# Altium schematic symbol library 原理图库.SchLib: 25 symbols
Pins are listed as number, name and electrical type; pins without a type are passive.

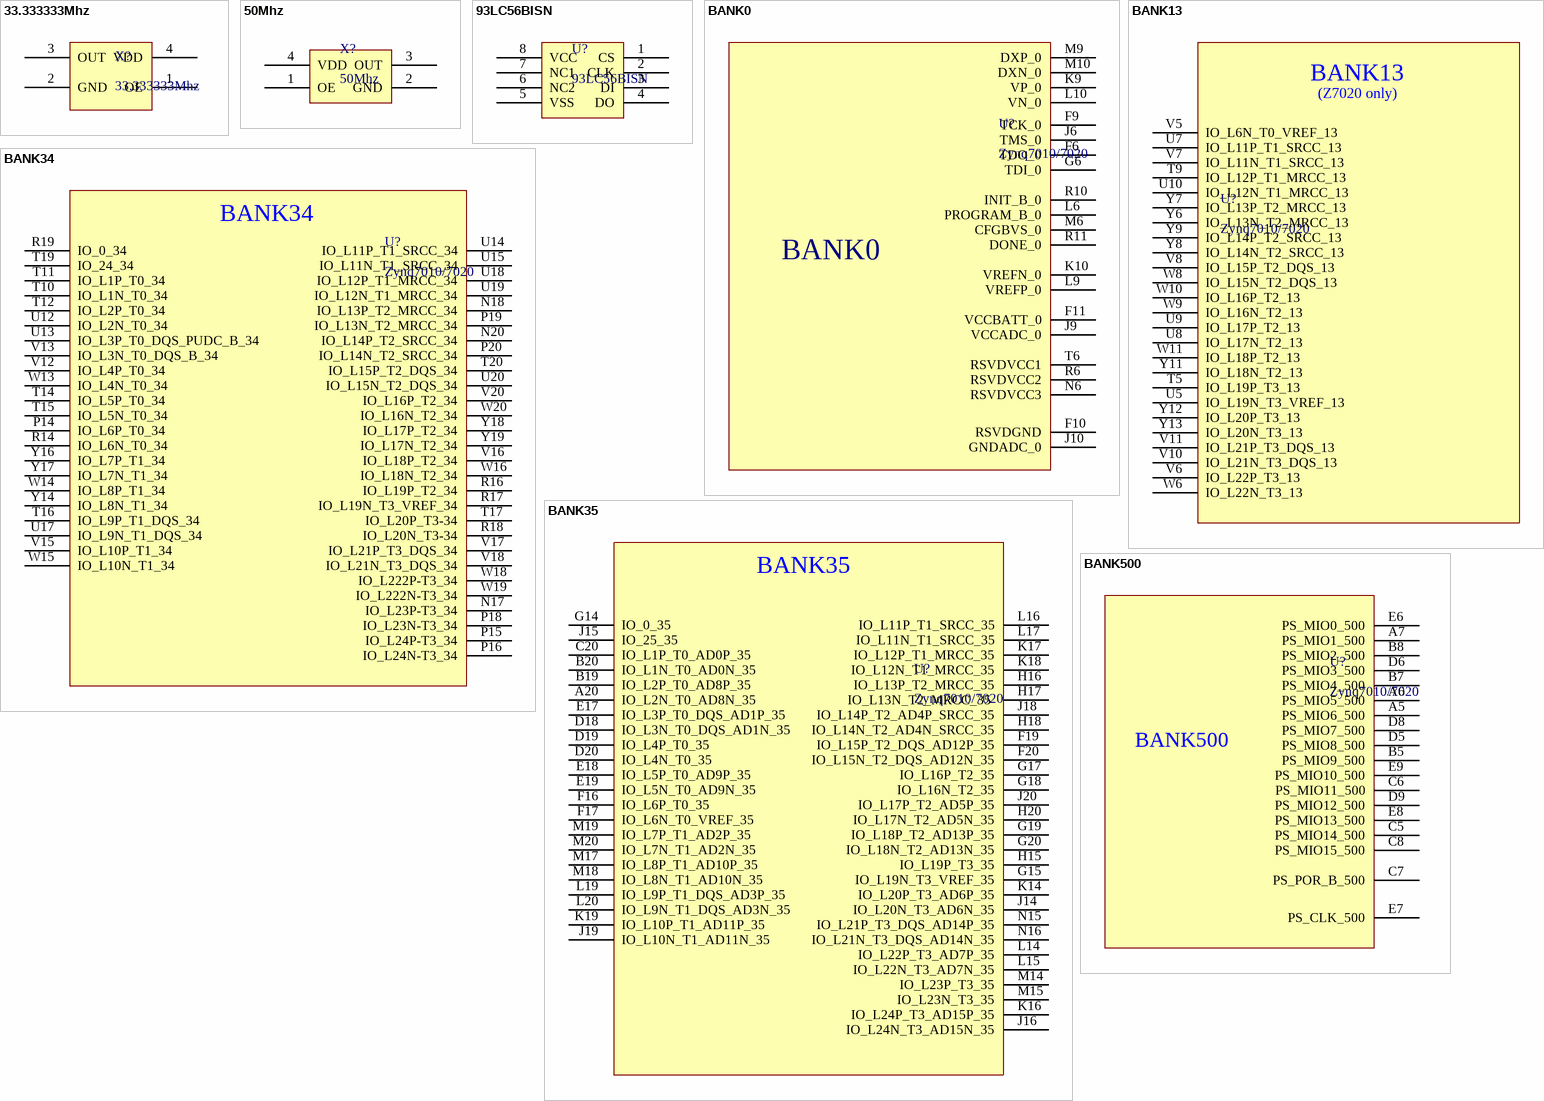
[diagram p0: symbols 33.333333Mhz to BANK500]

## 33.333333Mhz
designator X?
pins: 1 OE, 2 GND, 3 OUT, 4 VDD

## 50Mhz
designator X?
pins: 1 OE (hiz), 2 GND (hiz), 3 OUT (hiz), 4 VDD (hiz)

## 93LC56BISN
designator U?
pins: 1 CS, 2 CLK, 3 DI, 4 DO, 5 VSS, 6 NC2, 7 NC1, 8 VCC

## BANK0
designator U?, comment Zynq7010/7020
pins: F6 TDO_0, F9 TCK_0, F10 RSVDGND, F11 VCCBATT_0, G6 TDI_0, J6 TMS_0, J9 VCCADC_0, J10 GNDADC_0, K9 VP_0, K10 VREFN_0, L6 PROGRAM_B_0, L9 VREFP_0, L10 VN_0, M6 CFGBVS_0, M9 DXP_0, M10 DXN_0, N6 RSVDVCC3, R6 RSVDVCC2, R10 INIT_B_0, R11 DONE_0, T6 RSVDVCC1

## BANK13
designator U?, comment Zynq7010/7020
pins: T5 IO_L19P_T3_13 (hiz), T9 IO_L12P_T1_MRCC_13 (hiz), U5 IO_L19N_T3_VREF_13 (hiz), U7 IO_L11P_T1_SRCC_13 (hiz), U8 IO_L17N_T2_13 (hiz), U9 IO_L17P_T2_13 (hiz), U10 IO_L12N_T1_MRCC_13 (hiz), V5 IO_L6N_T0_VREF_13 (hiz), V6 IO_L22P_T3_13 (hiz), V7 IO_L11N_T1_SRCC_13 (hiz), V8 IO_L15P_T2_DQS_13 (hiz), V10 IO_L21N_T3_DQS_13 (hiz), V11 IO_L21P_T3_DQS_13 (hiz), W6 IO_L22N_T3_13 (hiz), W8 IO_L15N_T2_DQS_13 (hiz), W9 IO_L16N_T2_13 (hiz), W10 IO_L16P_T2_13 (hiz), W11 IO_L18P_T2_13 (hiz), Y6 IO_L13N_T2_MRCC_13 (hiz), Y7 IO_L13P_T2_MRCC_13 (hiz), Y8 IO_L14N_T2_SRCC_13 (hiz), Y9 IO_L14P_T2_SRCC_13 (hiz), Y11 IO_L18N_T2_13 (hiz), Y12 IO_L20P_T3_13 (hiz), Y13 IO_L20N_T3_13 (hiz)
text: (Z7020 only)

## BANK34
designator U?, comment Zynq7010/7020
pins: N17 IO_L23P-T3_34, N18 IO_L13P_T2_MRCC_34, N20 IO_L14P_T2_SRCC_34, P14 IO_L6P_T0_34 (hiz), P15 IO_L24P-T3_34, P16 IO_L24N-T3_34, P18 IO_L23N-T3_34, P19 IO_L13N_T2_MRCC_34, P20 IO_L14N_T2_SRCC_34, R14 IO_L6N_T0_34 (hiz), R16 IO_L19P_T2_34, R17 IO_L19N_T3_VREF_34, R18 IO_L20N_T3-34, R19 IO_0_34, T10 IO_L1N_T0_34, T11 IO_L1P_T0_34, T12 IO_L2P_T0_34, T14 IO_L5P_T0_34 (hiz), T15 IO_L5N_T0_34 (hiz), T16 IO_L9P_T1_DQS_34 (hiz), T17 IO_L20P_T3-34, T19 IO_24_34, T20 IO_L15P_T2_DQS_34, U12 IO_L2N_T0_34, U13 IO_L3P_T0_DQS_PUDC_B_34, U14 IO_L11P_T1_SRCC_34, U15 IO_L11N_T1_SRCC_34, U17 IO_L9N_T1_DQS_34 (hiz), U18 IO_L12P_T1_MRCC_34, U19 IO_L12N_T1_MRCC_34, U20 IO_L15N_T2_DQS_34, V12 IO_L4P_T0_34, V13 IO_L3N_T0_DQS_B_34, V15 IO_L10P_T1_34 (hiz), V16 IO_L18P_T2_34, V17 IO_L21P_T3_DQS_34, V18 IO_L21N_T3_DQS_34, V20 IO_L16P_T2_34, W13 IO_L4N_T0_34, W14 IO_L8P_T1_34 (hiz), W15 IO_L10N_T1_34 (hiz), W16 IO_L18N_T2_34, W18 IO_L222P-T3_34, W19 IO_L222N-T3_34, W20 IO_L16N_T2_34, Y14 IO_L8N_T1_34 (hiz), Y16 IO_L7P_T1_34 (hiz), Y17 IO_L7N_T1_34 (hiz), Y18 IO_L17P_T2_34, Y19 IO_L17N_T2_34

## BANK35
designator U?, comment Zynq7010/7020
pins: A20 IO_L2N_T0_AD8N_35 (hiz), B19 IO_L2P_T0_AD8P_35 (hiz), B20 IO_L1N_T0_AD0N_35 (hiz), C20 IO_L1P_T0_AD0P_35 (hiz), D18 IO_L3N_T0_DQS_AD1N_35 (hiz), D19 IO_L4P_T0_35 (hiz), D20 IO_L4N_T0_35 (hiz), E17 IO_L3P_T0_DQS_AD1P_35 (hiz), E18 IO_L5P_T0_AD9P_35 (hiz), E19 IO_L5N_T0_AD9N_35 (hiz), F16 IO_L6P_T0_35 (hiz), F17 IO_L6N_T0_VREF_35 (hiz), F19 IO_L15P_T2_DQS_AD12P_35 (hiz), F20 IO_L15N_T2_DQS_AD12N_35 (hiz), G14 IO_0_35 (hiz), G15 IO_L19N_T3_VREF_35 (hiz), G17 IO_L16P_T2_35 (hiz), G18 IO_L16N_T2_35 (hiz), G19 IO_L18P_T2_AD13P_35 (hiz), G20 IO_L18N_T2_AD13N_35 (hiz), H15 IO_L19P_T3_35 (hiz), H16 IO_L13P_T2_MRCC_35 (hiz), H17 IO_L13N_T2_MRCC_35  (hiz), H18 IO_L14N_T2_AD4N_SRCC_35 (hiz), H20 IO_L17N_T2_AD5N_35 (hiz), J14 IO_L20N_T3_AD6N_35 (hiz), J15 IO_25_35 (hiz), J16 IO_L24N_T3_AD15N_35 (hiz), J18 IO_L14P_T2_AD4P_SRCC_35 (hiz), J19 IO_L10N_T1_AD11N_35 (hiz), J20 IO_L17P_T2_AD5P_35 (hiz), K14 IO_L20P_T3_AD6P_35 (hiz), K16 IO_L24P_T3_AD15P_35 (hiz), K17 IO_L12P_T1_MRCC_35 (hiz), K18 IO_L12N_T1_MRCC_35 (hiz), K19 IO_L10P_T1_AD11P_35 (hiz), L14 IO_L22P_T3_AD7P_35 (hiz), L15 IO_L22N_T3_AD7N_35 (hiz), L16 IO_L11P_T1_SRCC_35 (hiz), L17 IO_L11N_T1_SRCC_35 (hiz), L19 IO_L9P_T1_DQS_AD3P_35 (hiz), L20 IO_L9N_T1_DQS_AD3N_35 (hiz), M14 IO_L23P_T3_35 (hiz), M15 IO_L23N_T3_35 (hiz), M17 IO_L8P_T1_AD10P_35 (hiz), M18 IO_L8N_T1_AD10N_35 (hiz), M19 IO_L7P_T1_AD2P_35 (hiz), M20 IO_L7N_T1_AD2N_35 (hiz), N15 IO_L21P_T3_DQS_AD14P_35 (hiz), N16 IO_L21N_T3_DQS_AD14N_35 (hiz)

## BANK500
designator U?, comment Zynq7010/7020
pins: A5 PS_MIO6_500, A6 PS_MIO5_500, A7 PS_MIO1_500, B5 PS_MIO9_500, B7 PS_MIO4_500, B8 PS_MIO2_500, C5 PS_MIO14_500, C6 PS_MIO11_500, C7 PS_POR_B_500, C8 PS_MIO15_500, D5 PS_MIO8_500, D6 PS_MIO3_500, D8 PS_MIO7_500, D9 PS_MIO12_500, E6 PS_MIO0_500, E7 PS_CLK_500, E8 PS_MIO13_500, E9 PS_MIO10_500

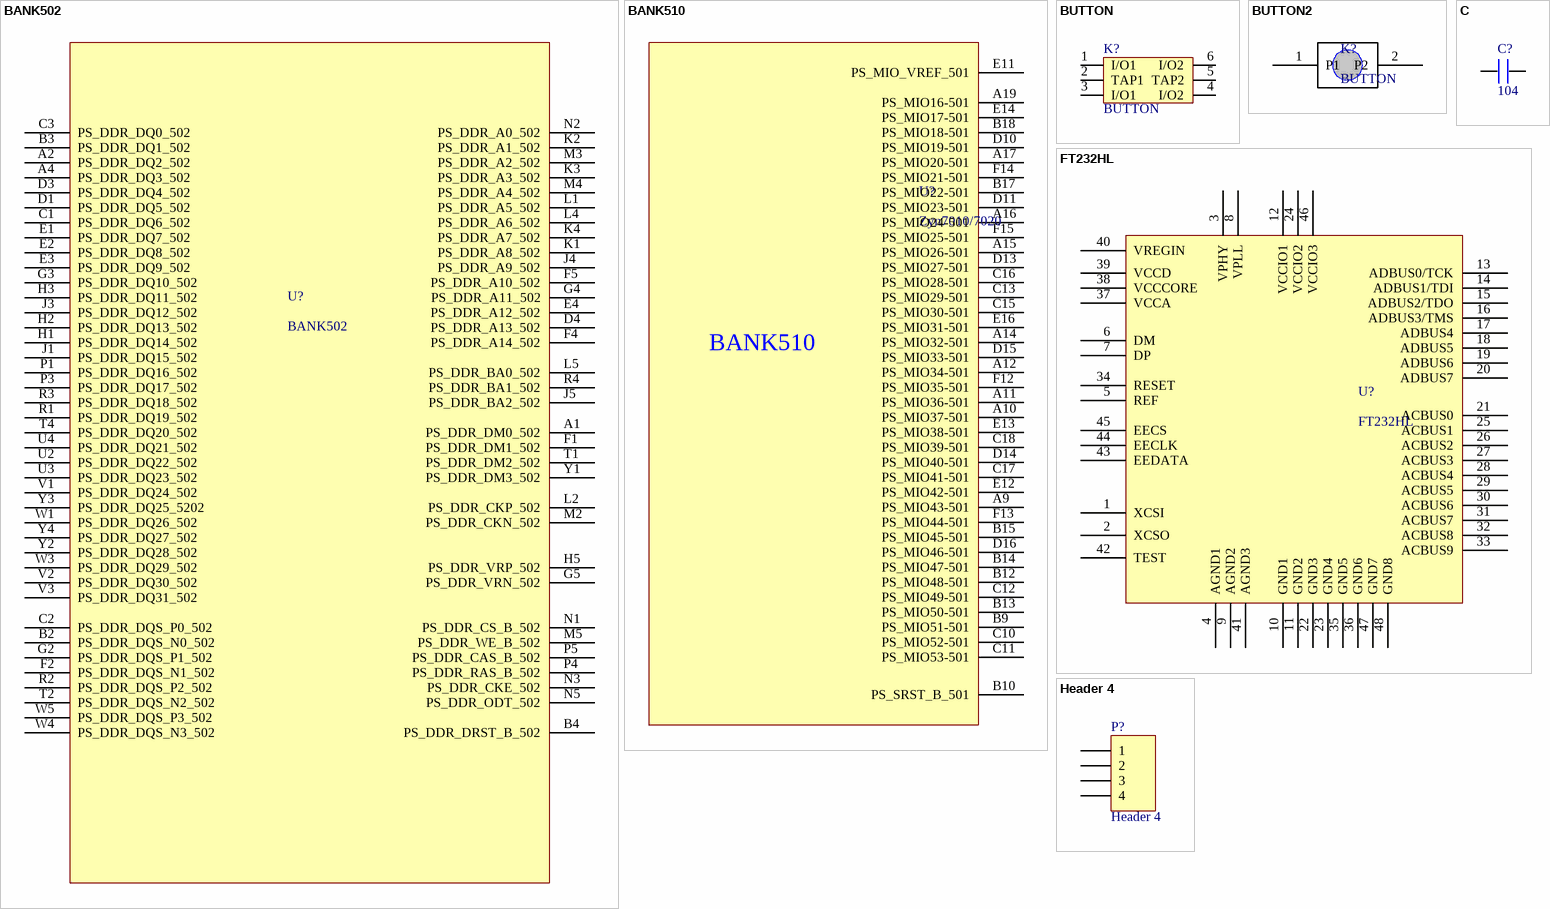
[diagram p1: symbols BANK502 to Header 4]

## BANK502
designator U?
pins: A1 PS_DDR_DM0_502, A2 PS_DDR_DQ2_502, A4 PS_DDR_DQ3_502, B2 PS_DDR_DQS_N0_502, B3 PS_DDR_DQ1_502, B4 PS_DDR_DRST_B_502, C1 PS_DDR_DQ6_502, C2 PS_DDR_DQS_P0_502, C3 PS_DDR_DQ0_502, D1 PS_DDR_DQ5_502, D3 PS_DDR_DQ4_502, D4 PS_DDR_A13_502, E1 PS_DDR_DQ7_502, E2 PS_DDR_DQ8_502, E3 PS_DDR_DQ9_502, E4 PS_DDR_A12_502, F1 PS_DDR_DM1_502, F2 PS_DDR_DQS_N1_502, F4 PS_DDR_A14_502, F5 PS_DDR_A10_502, G2 PS_DDR_DQS_P1_502, G3 PS_DDR_DQ10_502, G4 PS_DDR_A11_502, G5 PS_DDR_VRN_502, H1 PS_DDR_DQ14_502, H2 PS_DDR_DQ13_502, H3 PS_DDR_DQ11_502, H5 PS_DDR_VRP_502, J1 PS_DDR_DQ15_502, J3 PS_DDR_DQ12_502, J4 PS_DDR_A9_502, J5 PS_DDR_BA2_502, K1 PS_DDR_A8_502, K2 PS_DDR_A1_502, K3 PS_DDR_A3_502, K4 PS_DDR_A7_502, L1 PS_DDR_A5_502, L2 PS_DDR_CKP_502, L4 PS_DDR_A6_502, L5 PS_DDR_BA0_502, M2 PS_DDR_CKN_502, M3 PS_DDR_A2_502, M4 PS_DDR_A4_502, M5 PS_DDR_WE_B_502, N1 PS_DDR_CS_B_502, N2 PS_DDR_A0_502, N3 PS_DDR_CKE_502, N5 PS_DDR_ODT_502, P1 PS_DDR_DQ16_502, P3 PS_DDR_DQ17_502, P4 PS_DDR_RAS_B_502, P5 PS_DDR_CAS_B_502, R1 PS_DDR_DQ19_502, R2 PS_DDR_DQS_P2_502, R3 PS_DDR_DQ18_502, R4 PS_DDR_BA1_502, T1 PS_DDR_DM2_502, T2 PS_DDR_DQS_N2_502, T4 PS_DDR_DQ20_502, U2 PS_DDR_DQ22_502, U3 PS_DDR_DQ23_502, U4 PS_DDR_DQ21_502, V1 PS_DDR_DQ24_502, V2 PS_DDR_DQ30_502, V3 PS_DDR_DQ31_502, W1 PS_DDR_DQ26_502, W3 PS_DDR_DQ29_502, W4 PS_DDR_DQS_N3_502, W5 PS_DDR_DQS_P3_502, Y1 PS_DDR_DM3_502, Y2 PS_DDR_DQ28_502, Y3 PS_DDR_DQ25_5202, Y4 PS_DDR_DQ27_502

## BANK510
designator U?, comment Zyn7010/7020
pins: A9 PS_MIO43-501, A10 PS_MIO37-501, A11 PS_MIO36-501, A12 PS_MIO34-501, A14 PS_MIO32-501, A15 PS_MIO26-501, A16 PS_MIO24-501, A17 PS_MIO20-501, A19 PS_MIO16-501, B9 PS_MIO51-501, B10 PS_SRST_B_501, B12 PS_MIO48-501, B13 PS_MIO50-501, B14 PS_MIO47-501, B15 PS_MIO45-501, B17 PS_MIO22-501, B18 PS_MIO18-501, C10 PS_MIO52-501, C11 PS_MIO53-501, C12 PS_MIO49-501, C13 PS_MIO29-501, C15 PS_MIO30-501, C16 PS_MIO28-501, C17 PS_MIO41-501, C18 PS_MIO39-501, D10 PS_MIO19-501, D11 PS_MIO23-501, D13 PS_MIO27-501, D14 PS_MIO40-501, D15 PS_MIO33-501, D16 PS_MIO46-501, E11 PS_MIO_VREF_501, E12 PS_MIO42-501, E13 PS_MIO38-501, E14 PS_MIO17-501, E16 PS_MIO31-501, F12 PS_MIO35-501, F13 PS_MIO44-501, F14 PS_MIO21-501, F15 PS_MIO25-501

## BUTTON
designator K?
footprint BTN8.5*8.5 (8.5MM*8.5MM)
footprint BTN7*7 (7mm*7mm)
pins: 1 I/O1, 2 TAP1, 3 I/O1, 4 I/O2, 5 TAP2, 6 I/O2

## BUTTON2
designator K?, comment BUTTON
pins: 1 P1, 2 P2

## C
designator C?, comment 104
footprint 0603P
footprint 0805
footprint CC5.08 (CAP0.1)
footprint CC4.572 (222/332)
footprint 1206
footprint 1210
footprint CC6.096
footprint CC7.62
pins: 1, 2

## FT232HL
designator U?
pins: 1 XCSI, 2 XCSO, 3 VPHY, 4 AGND1, 5 REF, 6 DM, 7 DP, 8 VPLL, 9 AGND2, 10 GND1, 11 GND2, 12 VCCIO1, 13 ADBUS0/TCK, 14 ADBUS1/TDI, 15 ADBUS2/TDO, 16 ADBUS3/TMS, 17 ADBUS4, 18 ADBUS5, 19 ADBUS6, 20 ADBUS7, 21 ACBUS0, 22 GND3, 23 GND4, 24 VCCIO2, 25 ACBUS1, 26 ACBUS2, 27 ACBUS3, 28 ACBUS4, 29 ACBUS5, 30 ACBUS6, 31 ACBUS7, 32 ACBUS8, 33 ACBUS9, 34 RESET, 35 GND5, 36 GND6, 37 VCCA, 38 VCCCORE, 39 VCCD, 40 VREGIN, 41 AGND3, 42 TEST, 43 EEDATA, 44 EECLK, 45 EECS, 46 VCCIO3, 47 GND7, 48 GND8

## Header 4
designator P?
Header, 4-Pin; LatestRevisionDate: 17-Jul-2002; LatestRevisionNote: Re-released for DXP Platform.; Publisher: Altium Limited
footprint HDR1X4 (Connector; Header; 4 Position)
signal-integrity model Connector
pins: 1, 2, 3, 4

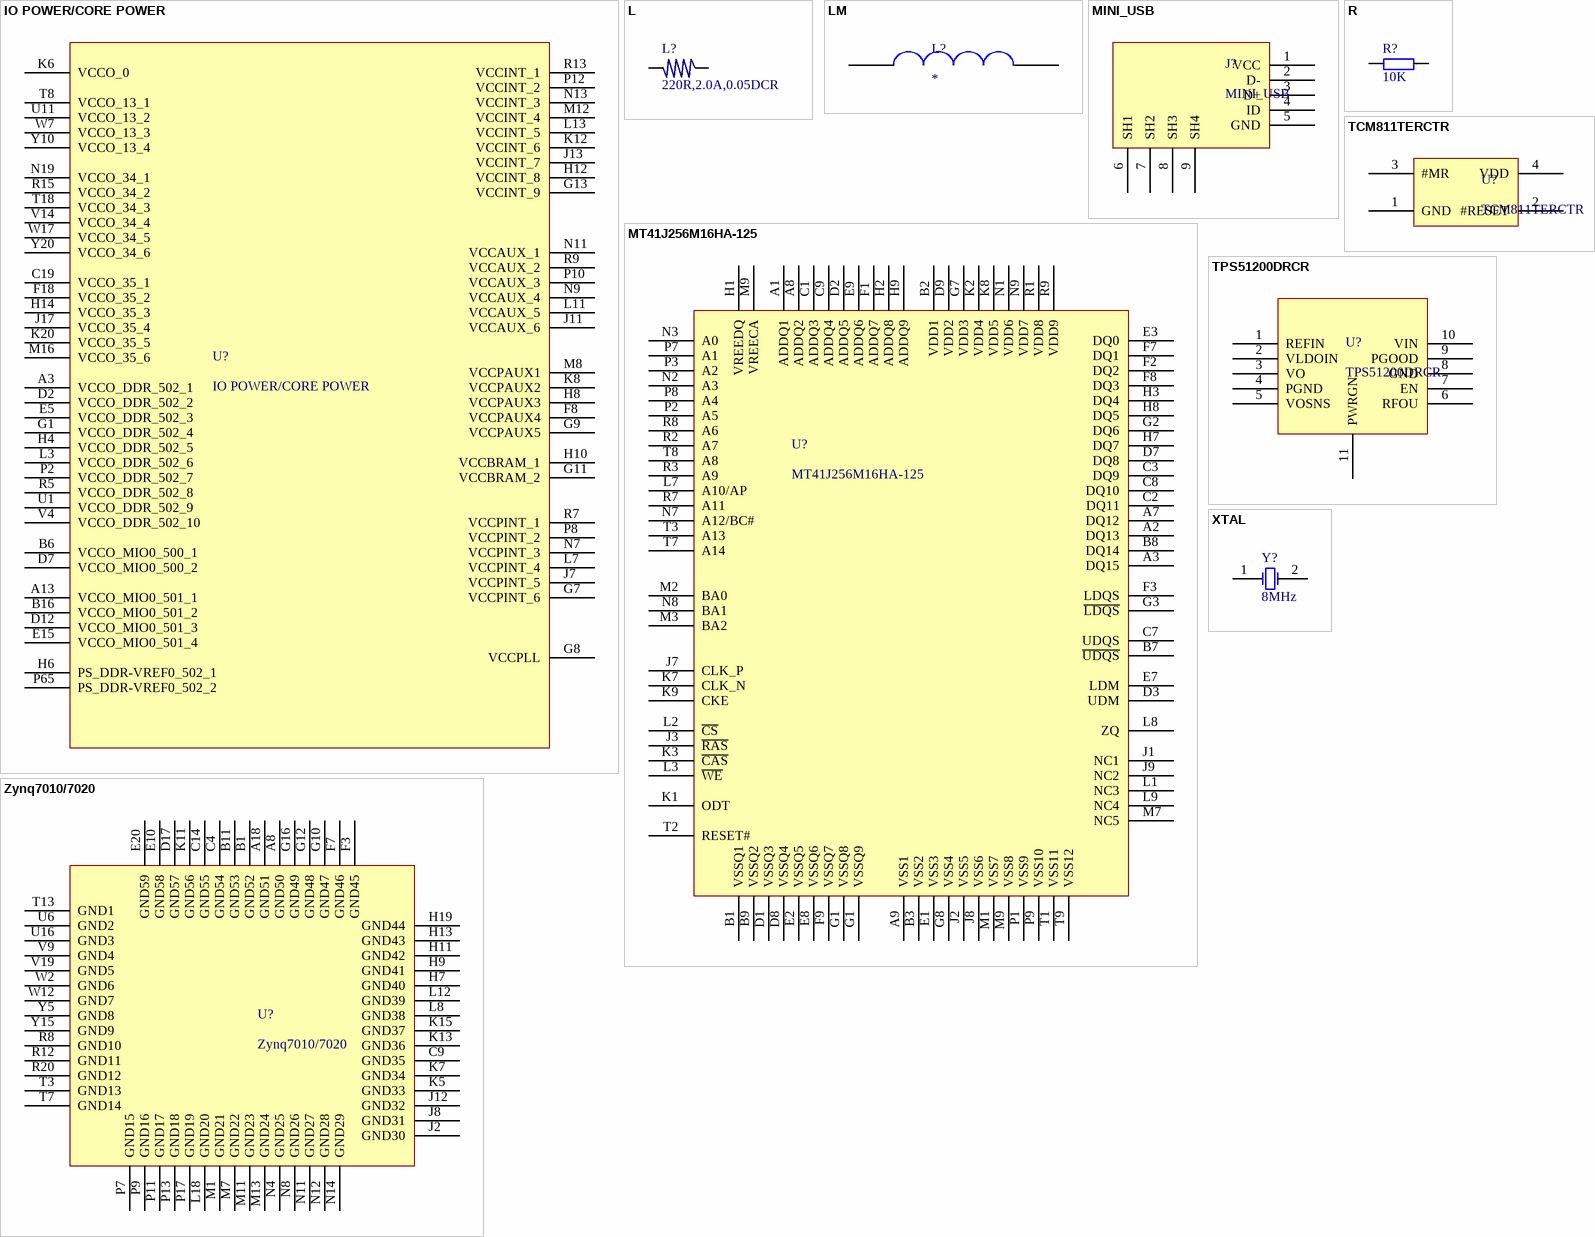
[diagram p2: symbols IO POWER/CORE POWER to Zynq7010/7020]

## IO POWER/CORE POWER
designator U?
pins: A3 VCCO_DDR_502_1, A13 VCCO_MIO0_501_1, B6 VCCO_MIO0_500_1, B16 VCCO_MIO0_501_2, C19 VCCO_35_1, D2 VCCO_DDR_502_2, D7 VCCO_MIO0_500_2, D12 VCCO_MIO0_501_3, E5 VCCO_DDR_502_3, E15 VCCO_MIO0_501_4, F8 VCCPAUX4, F18 VCCO_35_2, G1 VCCO_DDR_502_4, G7 VCCPINT_6, G8 VCCPLL, G9 VCCPAUX5, G11 VCCBRAM_2, G13 VCCINT_9, H4 VCCO_DDR_502_5, H6 PS_DDR-VREF0_502_1, H8 VCCPAUX3, H10 VCCBRAM_1, H12 VCCINT_8, H14 VCCO_35_3, J7 VCCPINT_5, J11 VCCAUX_6, J13 VCCINT_7, J17 VCCO_35_4, K6 VCCO_0, K8 VCCPAUX2, K12 VCCINT_6, K20 VCCO_35_5, L3 VCCO_DDR_502_6, L7 VCCPINT_4, L11 VCCAUX_5, L13 VCCINT_5, M8 VCCPAUX1, M12 VCCINT_4, M16 VCCO_35_6, N7 VCCPINT_3, N9 VCCAUX_4, N11 VCCAUX_1, N13 VCCINT_3, N19 VCCO_34_1, P2 VCCO_DDR_502_7, P8 VCCPINT_2, P10 VCCAUX_3, P12 VCCINT_2, P65 PS_DDR-VREF0_502_2, R5 VCCO_DDR_502_8, R7 VCCPINT_1, R9 VCCAUX_2, R13 VCCINT_1, R15 VCCO_34_2, T8 VCCO_13_1, T18 VCCO_34_3, U1 VCCO_DDR_502_9, U11 VCCO_13_2, V4 VCCO_DDR_502_10, V14 VCCO_34_4, W7 VCCO_13_3, W17 VCCO_34_5, Y10 VCCO_13_4, Y20 VCCO_34_6

## L
designator L?, comment 220R,2.0A,0.05DCR
footprint L3A (L)
footprint L4.7
footprint L_USER (SELF_DEF)
footprint L10 (10mH)
footprint SMD7850
footprint 0805
footprint 1206
footprint L_SOPL (L_LARGE)
footprint L_CD43 (4mm*4mm)
footprint 0603P
footprint L_SOP4 (4mm*4mm*1.7mm)
pins: 1, 2

## LM
designator L?
pins: ?1, ?2

## MINI_USB
designator J?
pins: 1 VCC, 2 D-, 3 D+, 4 ID, 5 GND, 6 SH1, 7 SH2, 8 SH3, 9 SH4

## MT41J256M16HA-125
designator U?
pins: A1 ADDQ1, A2 DQ13, A3 DQ15, A7 DQ12, A8 ADDQ2, A9 VSS1, B1 VSSQ1, B2 VDD1, B3 VSS2, B7 ~{UDQS}, B8 DQ14, B9 VSSQ2, C1 ADDQ3, C2 DQ11, C3 DQ9, C7 UDQS, C8 DQ10, C9 ADDQ4, D1 VSSQ3, D2 ADDQ5, D3 UDM, D7 DQ8, D8 VSSQ4, D9 VDD2, E1 VSS3, E2 VSSQ5, E3 DQ0, E7 LDM, E8 VSSQ6, E9 ADDQ6, F1 ADDQ7, F2 DQ2, F3 LDQS, F7 DQ1, F8 DQ3, F9 VSSQ7, G1 VSSQ8, G1 VSSQ9, G2 DQ6, G3 ~{LDQS}, G7 VDD3, G8 VSS4, H1 VREEDQ, H2 ADDQ8, H3 DQ4, H7 DQ7, H8 DQ5, H9 ADDQ9, J1 NC1, J2 VSS5, J3 ~{RAS}, J7 CLK_P, J8 VSS6, J9 NC2, K1 ODT, K2 VDD4, K3 ~{CAS}, K7 CLK_N, K8 VDD5, K9 CKE, L1 NC3, L2 ~{CS}, L3 ~{WE}, L7 A10/AP, L8 ZQ, L9 NC4, M1 VSS7, M2 BA0, M3 BA2, M7 NC5, M9 VSS8, M9 VREECA, N1 VDD6, N2 A3, N3 A0, N7 A12/BC#, N8 BA1, N9 VDD7, P1 VSS9, P2 A5, P3 A2, P7 A1, P8 A4, P9 VSS10, R1 VDD8, R2 A7, R3 A9, R7 A11, R8 A6, R9 VDD9, T1 VSS11, T2 RESET#, T3 A13, T7 A14, T8 A8, T9 VSS12

## R
designator R?, comment 10K
footprint 0805
footprint 0603P
footprint RL (10o/0.7uH)
footprint R16.0 (RX/1W)
footprint 1206
footprint 1210
footprint R20.0 (RX/2W)
footprint R10.16 (STD)
footprint RLN9 (13.5mm*5.1mm)
pins: 1, 2

## TCM811TERCTR
designator U?
pins: 1 GND, 2 #RESET, 3 #MR, 4 VDD

## TPS51200DRCR
designator U?
pins: 1 REFIN , 2 VLDOIN, 3 VO, 4 PGND, 5 VOSNS, 6 RFOU, 7 EN, 8 GND, 9 PGOOD, 10 VIN, 11 PWRGN

## XTAL
designator Y?, comment 8MHz
Crystal Oscillator; Published: 8-Jun-2000; LatestRevisionDate: 17-Jul-2002; LatestRevisionNote: Re-released for DXP Platform.; Publisher: Altium Limited
footprint XTAL_US
simulation model XTAL (Spice Subcircuit)
pins: 1 OSC1, 2 OSC2

## Zynq7010/7020
designator U?
pins: A8 GND50, A18 GND51, B1 GND52, B11 GND53, C4 GND54, C9 GND35, C14 GND55, D17 GND57, E10 GND58, E20 GND59, F3 GND45, F7 GND46, G10 GND47, G12 GND48, G16 GND49, H7 GND40, H9 GND41, H11 GND42, H13 GND43, H19 GND44, J2 GND30, J8 GND31, J12 GND32, K5 GND33, K7 GND34, K11 GND56, K13 GND36, K15 GND37, L8 GND38, L12 GND39, L18 GND20, M1 GND21, M7 GND22, M11 GND23, M13 GND24, N4 GND25, N8 GND26, N11 GND27, N12 GND28, N14 GND29, P7 GND15, P9 GND16, P11 GND17, P13 GND18, P17 GND19, R8 GND10, R12 GND11, R20 GND12, T3 GND13, T7 GND14, T13 GND1, U6 GND2, U16 GND3, V9 GND4, V19 GND5, W2 GND6, W12 GND7, Y5 GND8, Y15 GND9